# Altium footprint library DIP-T  0607.PCBlib: 108 footprints (part 3 of 7)
Each footprint in its own frame and in the unit in brackets; x right, y up, seen from the top. Pads: shape width x height; smd on the part's side, far side on the other; paste and mask are expansions set on the pad; w line width, h text height; cw(c..) or ccw(c..) is an arc to the next point about the centre after c.
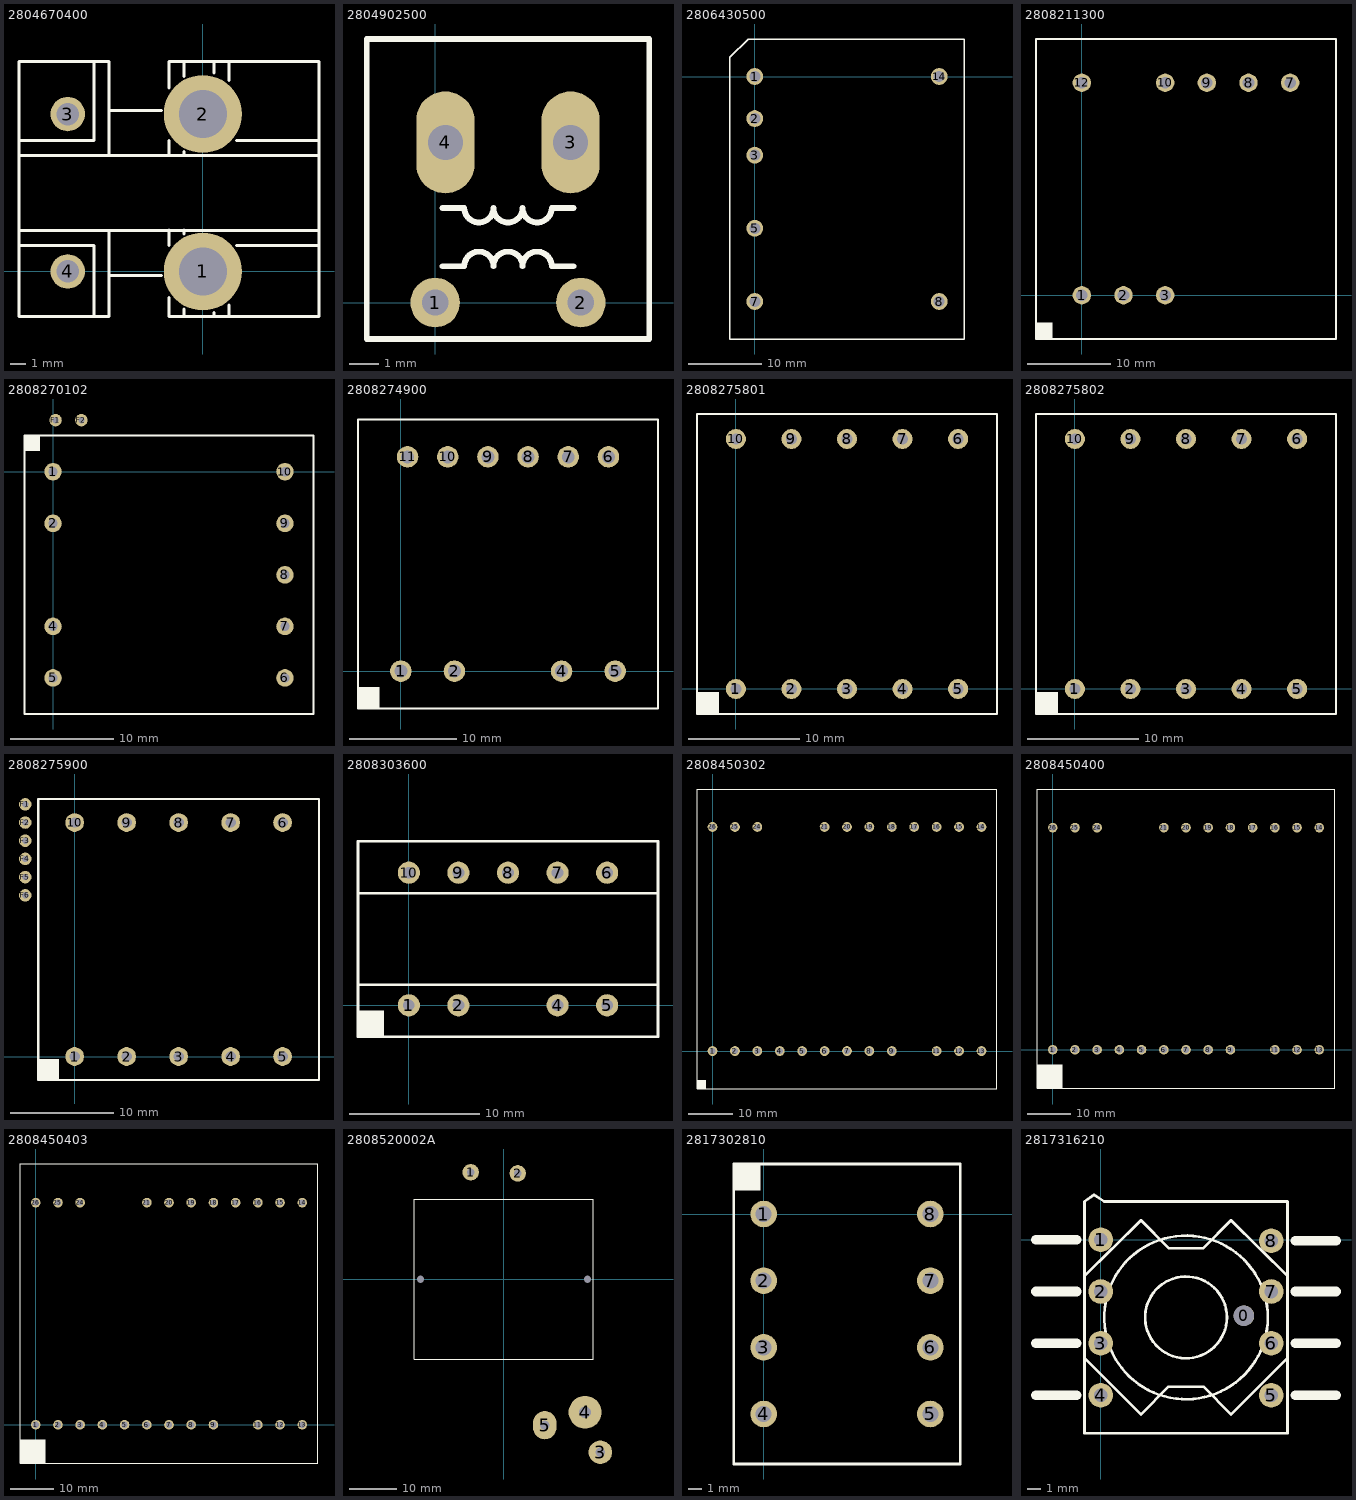
[diagram p2: the footprints below, top view; thin cyan lines are the x and y axes]

## 2804670400 [mm] "ST-U10.5-03"
height 22
pads (4):
  round 5.2 hole 3.2: 1(0,0) 2(0,10.5)
  round 2.3 hole 1.5: 3(-9,10.5) 4(-9,0)
Top Overlay:
  lines w0.2: -12.25,1.75 -7.25,1.75 -7.25,-3 ; -12.25,2.75 7.75,2.75 ; -12.25,7.75 7.75,7.75 ; -12.25,8.75 -7.25,8.75 -7.25,14 ; -6.25,-0.25 -2.75,-0.25 ; -6.25,2.75 -6.25,-3 -12.25,-3 -12.25,14 -6.25,14 -6.25,7.75 ; -6.25,10.75 -2.75,10.75 ; -2.25,-1.75 -2.25,-3 7.75,-3 7.75,14 -2.25,14 -2.25,12.25 ; -2.25,7.75 -2.25,8.75 ; -1.25,-3 -1.25,-2.5 ; -1.25,2.5 -1.25,2.75 ; -1.25,7.75 -1.25,8 ; -1.25,13 -1.25,14 ; 0.75,-3 0.75,-2.75 ; 0.75,13.25 0.75,14 ; 1.75,-3 1.75,-2.25 ; 1.75,12.75 1.75,14 ; 2.25,1.75 7.75,1.75 ; 2.25,8.75 7.75,8.75 ; -2.25,1.75 -2.25,2.75 -2.25,1.75

## 2804902500 [mm]
pads (4):
  round 1.7 hole 0.9: 1(0,0) 2(5,0)
  oval 2x3.5 hole 1.2: 3(4.65,5.5) 4(0.35,5.5)
Top Overlay:
  lines w0.2: 0.25,1.25 1,1.25 cw(c1.5,1.25) 2,1.25 cw(c2.5,1.25) 3,1.25 cw(c3.5,1.25) 4,1.25 4.75,1.25 ; 0.25,3.25 1,3.25 ccw(c1.5,3.25) 2,3.25 ccw(c2.5,3.25) 3,3.25 ccw(c3.5,3.25) 4,3.25 4.75,3.25 ; -2.35,-1.25 7.35,-1.25 7.35,9.05 -2.35,9.05 -2.35,-1.25
Drill Drawing:
  lines w0.2: -0.25,5.2 ccw(c0.35,5.2) 0.95,5.2 0.95,5.8 ccw(c0.35,5.8) -0.25,5.8 -0.25,5.2 ; 4.05,5.2 ccw(c4.65,5.2) 5.25,5.2 5.25,5.8 ccw(c4.65,5.8) 4.05,5.8 4.05,5.2
  text "1.8X1.2" at -0.75,2 h1.2
  text "1.8X1.2" at 7,2 h1.2

## 2806430500 [mm] "CE-39RV-04"
height 51
pads (7):
  round 2.3 hole 1.5: 1(0,0) 2(0,-5.75) 3(0,-10.75) 5(0,-20.75) 7(0,-30.75) 8(25.2,-30.75) 14(25.2,0)
Top Overlay:
  lines w0.2: -3.4,-35.875 28.6,-35.875 28.6,5.125 -0.9,5.125 -3.4,2.625 -3.4,-35.875

## 2808211300 [mm]
height 42
pads (8):
  round 2.2 hole 1.4: 1(0,0) 2(5,0) 3(10,0) 7(25,25.5) 8(20,25.5) 9(15,25.5) 10(10,25.5) 12(0,25.5)
Top Overlay:
  rectangle: -5.5,-5.25 -3.5,-3.25
  lines w0.2: -5.5,-5.25 -5.5,30.75 30.5,30.75 30.5,-5.25 -5.5,-5.25

## 2808270102 [mm]
height 16
pads (11):
  round 1.7 hole 0.9: 1(0,0) 2(0,-5) 4(0,-15) 5(0,-20) 6(22.5,-20) 7(22.5,-15) 8(22.5,-10) 9(22.5,-5) 10(22.5,0)
  round 1.2 hole 0.6: F1(0.25,5) F2(2.75,5)
Top Overlay:
  rectangle: -2.75,2 -1.25,3.5
  lines w0.2: -2.75,-23.5 -2.75,3.5 25.25,3.5 25.25,-23.5 -2.75,-23.5

## 2808274900 [mm]
height 18
pads (10):
  round 2 hole 1.2: 1(0,0) 2(5,0) 4(15,0) 5(20,0) 6(19.375,20) 7(15.625,20) 8(11.875,20) 9(8.125,20) 10(4.375,20) 11(0.625,20)
Top Overlay:
  rectangle: -4,-3.5 -2,-1.5
  lines w0.2: -4,-3.5 -4,23.5 24,23.5 24,-3.5 -4,-3.5

## 2808275801 [mm] "SMT-25H-UT2119A"
height 17
pads (10):
  round 1.8 hole 1: 1(0,0) 2(5,0) 3(10,0) 4(15,0) 5(20,0) 6(20,22.5) 7(15,22.5) 8(10,22.5) 9(5,22.5) 10(0,22.5)
Top Overlay:
  rectangle: -3.5,-2.25 -1.5,-0.25
  lines w0.2: -3.5,-2.25 23.5,-2.25 23.5,24.75 -3.5,24.75 -3.5,-2.25

## 2808275802 [mm] "SMT-25H-UT2119B"
height 17
pads (10):
  round 1.8 hole 1: 1(0,0) 2(5,0) 3(10,0) 4(15,0) 5(20,0) 6(20,22.5) 7(15,22.5) 8(10,22.5) 9(5,22.5) 10(0,22.5)
Top Overlay:
  rectangle: -3.5,-2.25 -1.5,-0.25
  lines w0.2: -3.5,-2.25 -3.5,24.75 23.5,24.75 23.5,-2.25 -3.5,-2.25

## 2808275900 [mm]
height 18
pads (16):
  round 1.8 hole 1: 1(0,0) 2(5,0) 3(10,0) 4(15,0) 5(20,0) 6(20,22.5) 7(15,22.5) 8(10,22.5) 9(5,22.5) 10(0,22.5)
  round 1.2 hole 0.6: F1(-4.75,24.25) F2(-4.75,22.5) F3(-4.75,20.75) F4(-4.75,19) F5(-4.75,17.25) F6(-4.75,15.5)
Top Overlay:
  rectangle: -3.5,-2.25 -1.5,-0.25
  lines w0.2: -3.5,-2.25 23.5,-2.25 23.5,24.75 -3.5,24.75 -3.5,-2.25

## 2808303600 [mm]
height 24.5
pads (9):
  round 1.7 hole 0.9: 1(0,0) 2(3.8,0) 4(11.4,0) 5(15.2,0) 6(15.2,10.16) 7(11.4,10.16) 8(7.6,10.16) 9(3.8,10.16) 10(0,10.16)
Top Overlay:
  rectangle: -3.9,-2.42 -1.9,-0.42
  lines w0.2: -3.9,1.58 19.1,1.58 ; -3.9,8.58 19.1,8.58 ; -3.9,-2.42 19.1,-2.42 19.1,12.58 -3.9,12.58 -3.9,-2.42

## 2808450302 [mm]
height 53
pads (23):
  round 2.2 hole 1.4: 1(0,0) 2(5.08,0) 3(10.16,0) 4(15.24,0) 5(20.32,0) 6(25.4,0) 7(30.48,0) 8(35.56,0) 9(40.64,0) 11(50.8,0) 12(55.88,0) 13(60.96,0) 14(60.96,50.8) 15(55.88,50.8) 16(50.8,50.8) 17(45.72,50.8) 18(40.64,50.8) 19(35.56,50.8) 20(30.48,50.8) 21(25.4,50.8) 24(10.16,50.8) 25(5.08,50.8) 26(0,50.8)
Top Overlay:
  rectangle: -3.52,-8.6 -1.52,-6.6
  lines w0.2: -3.52,-8.6 64.48,-8.6 64.48,59.4 -3.52,59.4 -3.52,-8.6

## 2808450400 [mm] "AMT-59RH-UT3014"
height 56
pads (23):
  round 2.2 hole 1.4: 1(0,0) 2(5.08,0) 3(10.16,0) 4(15.24,0) 5(20.32,0) 6(25.4,0) 7(30.48,0) 8(35.56,0) 9(40.64,0) 11(50.8,0) 12(55.88,0) 13(60.96,0) 14(60.96,50.8) 15(55.88,50.8) 16(50.8,50.8) 17(45.72,50.8) 18(40.64,50.8) 19(35.56,50.8) 20(30.48,50.8) 21(25.4,50.8) 24(10.16,50.8) 25(5.08,50.8) 26(0,50.8)
Top Overlay:
  region: 2.23,-8.85 2.23,-3.35 -3.52,-3.35 -3.52,-8.85
  lines w0.2: -3.52,-8.85 -0.27,-8.85 64.48,-8.85 64.48,59.65 -3.52,59.65 -3.52,-8.85

## 2808450403 [mm]
height 59
pads (23):
  round 2.2 hole 1.4: 1(0,0) 2(5.08,0) 3(10.16,0) 4(15.24,0) 5(20.32,0) 6(25.4,0) 7(30.48,0) 8(35.56,0) 9(40.64,0) 11(50.8,0) 12(55.88,0) 13(60.96,0) 14(60.96,50.8) 15(55.88,50.8) 16(50.8,50.8) 17(45.72,50.8) 18(40.64,50.8) 19(35.56,50.8) 20(30.48,50.8) 21(25.4,50.8) 24(10.16,50.8) 25(5.08,50.8) 26(0,50.8)
Top Overlay:
  region: 2.23,-8.85 2.23,-3.35 -3.52,-3.35 -3.52,-8.85
  lines w0.2: -3.52,-8.85 -0.27,-8.85 64.48,-8.85 64.48,59.65 -3.52,59.65 -3.52,-8.85

## 2808520002A [mm]
height 36
pads (7):
  round 1 hole 1.5 unplated: 0(-17.746,0.019) 0(17.754,0.019)
  round 3.5 hole 1.6: 1(-7.055,22.761) 2(2.945,22.511)
  round 5 hole 2: 3(20.504,-36.731)
  round 7 hole 2.5: 4(17.254,-28.231)
  oval 5x6 hole 2: 5(8.695,-30.989)
Top Overlay:
  lines w0.2: -18.996,-16.981 19.004,-16.981 19.004,17.019 -18.996,17.019 -18.996,-16.981
Top Paste:
  lines w0.2: -19.005,-16.989 18.995,17.011 ; -19.005,17.011 18.995,-16.989
Drill Drawing:
  lines w0.2: -21.25,-16 -19.25,-16 ; -21.25,16 -19.25,16 ; -20.75,-14.5 -20.25,-16 ; -20.75,14.5 -20.25,16 ; -20.25,-1.572 -20.25,-16 ; -20.25,1.572 -20.25,16 ; -19.75,-14.5 -20.25,-16 ; -19.75,14.5 -20.25,16 ; -19.54,-11.75 -17,-11.75 ; -18.505,-15.239 -18.496,16.019 14.245,16.004 ; -18.5,-15.25 ccw(c-17.75,-15.25) -17,-15.25 ; -18.5,-12.25 -17,-11.75 ; -18.5,-11.25 -17,-11.75 ; -17.005,-15.239 -16.996,14.519 ; -17.005,14.511 15.245,14.511 ; -17,-12.75 -17,-10.75 ; -17,10 -17,12 ; -15.5,10.5 -17,11 ; -15.5,11.5 -17,11 ; -15.255,-15.981 18.504,-15.981 ; -15.255,-14.481 17.004,-14.481 16.995,15.261 ; -15.25,-16 cw(c-15.25,-15.25) -15.25,-14.5 ; -13.46,-11.75 -16,-11.75 ; -2.072,11 -17,11 ; -1.246,16.019 15.245,16.004 ; -1.072,-11.75 -16,-11.75 ; 1.072,11 16,11 ; 2.072,-11.75 17,-11.75 ; 13.46,11 16,11 ; 15.25,14.492 ccw(c15.25,15.242) 15.25,15.992 ; 15.5,-12.25 17,-11.75 ; 15.5,-11.25 17,-11.75 ; 17,-12.75 17,-10.75 ; 17,10 17,12 ; 17.008,15.25 cw(c17.758,15.25) 18.508,15.25 ; 18.495,-15.989 18.495,15.261 ; 18.5,10.5 17,11 ; 18.5,11.5 17,11 ; 19.54,11 17,11 ; -16,-11.75 -14.5,-12.25 -16,-11.75 ; -16,-11.75 -14.5,-11.25 -16,-11.75 ; 16,11 14.5,10.5 16,11 ; 16,11 14.5,11.5 16,11 ; -16,-12.75 -16,-10.75 -16,-12.75 ; 16,10 16,12 16,10
  text "ROUT=1.5  NPTH" at -15,-8.25 h1.2
  text "1" at -16.829,-15.349 h1.5
  text "33" at -0.818,-12.65 h1.5
  text "33" at -1.818,10.1 h1.5
  text "1" at 16.171,7.401 h1.5
  text "32" at -19.35,-1.318 h1.5
  text "ROUT=1.5  NPTH" at 15.746,-8.269 h1.2

## 2817302810 [mm]
pads (8):
  round 2 hole 1.2: 1(0,0) 2(0,-5) 3(0,-10) 4(0,-15) 5(12.5,-15) 6(12.5,-10) 7(12.5,-5) 8(12.5,0)
Top Overlay:
  rectangle: -2.25,1.75 -0.25,3.75
  lines w0.2: -2.25,-18.75 14.75,-18.75 14.75,3.75 -2.25,3.75 -2.25,-18.75
Bottom Overlay:
  rectangle: -2.25,1.75 -0.25,3.75
  lines w0.2: -2.25,-18.75 14.75,-18.75 14.75,3.75 -2.25,3.75 -2.25,-18.75

## 2817316210 [mm] "RM-5"
height 13
pads (9):
  round 1.5 hole 1.5 unplated: 0(10.5,-5.575)
  round 1.8 hole 1: 1(0,0) 2(0,-3.8) 3(0,-7.6) 4(0,-11.4) 5(12.5,-11.4) 6(12.5,-7.6) 7(12.5,-3.8) 8(12.5,-0.075)
Top Overlay:
  circle w0.2: c6.25,-5.7 r6
  circle w0.2: c6.25,-5.7 r3
  lines w0.2: -1.2,-8.677 2.948,-12.825 4.98,-10.78 7.52,-10.78 9.552,-12.825 13.7,-8.677 ; -1.2,-2.652 2.948,1.425 4.98,-0.62 7.52,-0.62 9.552,1.425 13.7,-2.652 ; -1.2,-14.2 13.7,-14.2 13.7,2.8 0.25,2.8 -0.5,3.3 -1.2,2.8 -1.2,-14.2
  lines w0.7: -4.75,-11.4 -1.75,-11.4 ; -4.75,-7.6 -1.75,-7.6 ; -4.75,-3.8 -1.75,-3.8 ; -4.75,0 -1.75,0 ; 14.25,-11.4 17.25,-11.4 ; 14.25,-7.6 17.25,-7.6 ; 14.25,-3.8 17.25,-3.8 ; 14.25,-0.075 17.25,-0.075
Drill Drawing:
  lines w0.2: 9.75,-11.825 ccw(c10.5,-11.825) 11.25,-11.825 11.25,0.675 ccw(c10.5,0.675) 9.75,0.675 9.75,-11.825
  text "NPTH (1.5*14)mm" at 8,2.175 h1.2